# Altium schematic symbol library Hammerhead - Schematic Symbol Lib.SchLib: 16 symbols
Pins are listed as number, name and electrical type; pins without a type are passive.

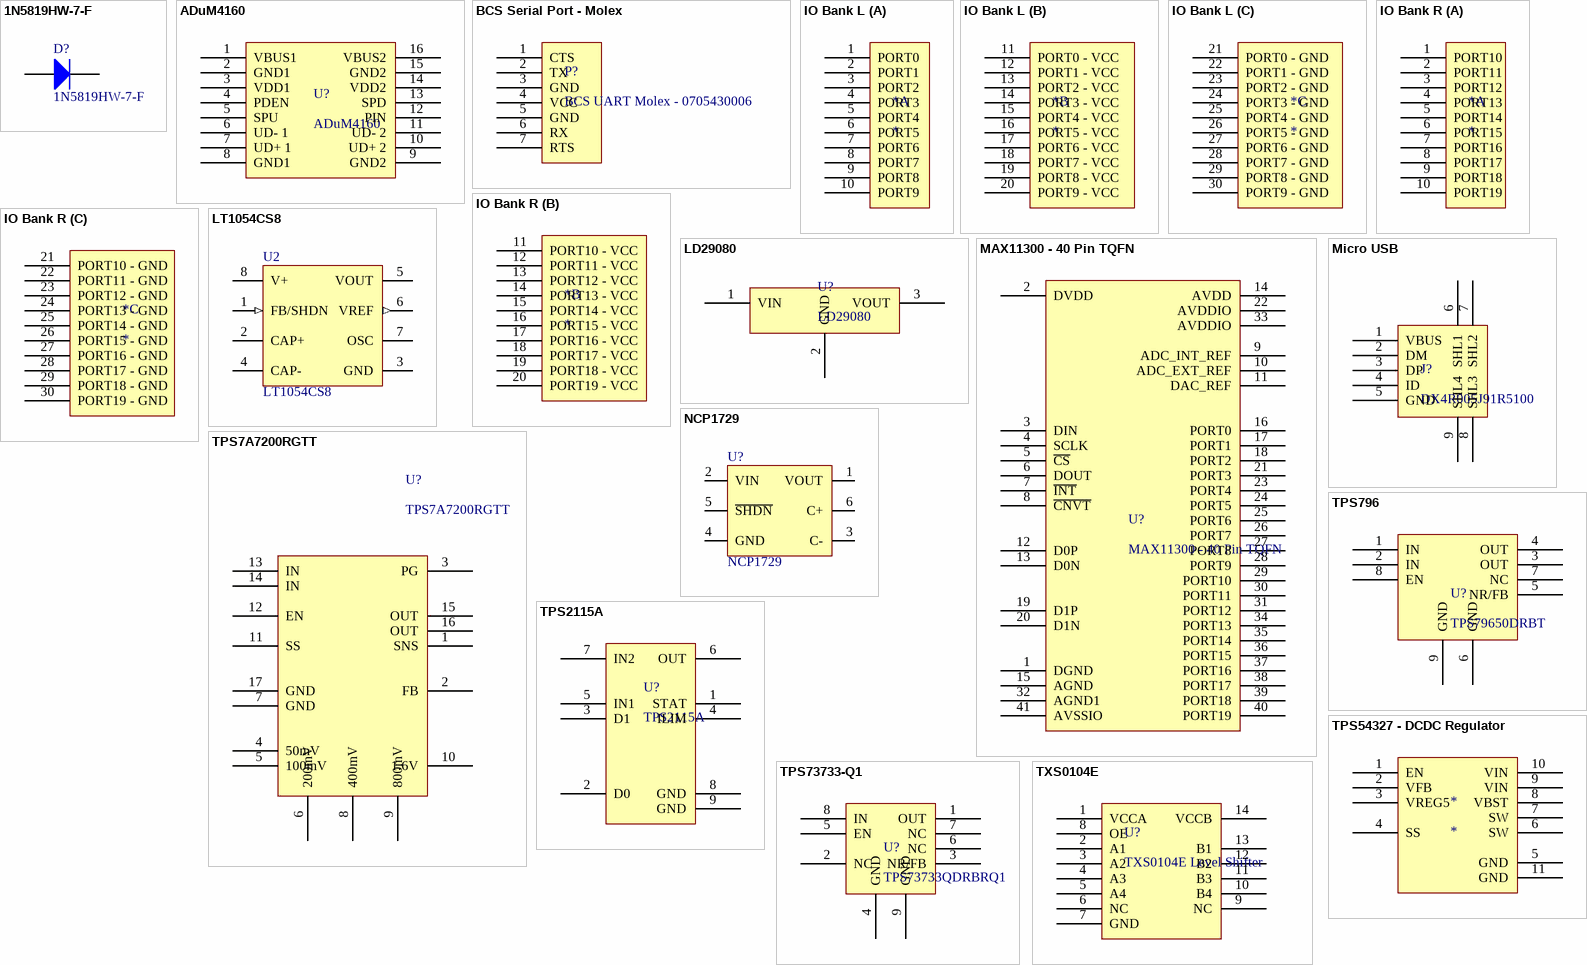
[diagram p0: symbols 1N5819HW-7-F to TXS0104E]

## 1N5819HW-7-F
designator D?
Published: 8-Jun-2000; LatestRevisionDate: 17-Jul-2002; LatestRevisionNote: Re-released for DXP Platform.; PackageVersion: Sep-1996; PackageReference: SMC; Publisher: Altium Limited; PackageDescription: DO-214-AB/SMC; 2 C-Bend Leads; Body 7.9 x 5.9 mm, inc. leads (LxW); Code_JEDEC: DO-214-AB
simulation model DIODE (Diode)
signal-integrity model Diode
footprint DIOM2715X14N (Molded Diode, 2-Leads, Body 2.70x1.55mm, IPC Medium Density)
pins: 1 A, 2 K

## ADuM4160
designator U?
USB Opto Isolator
footprint ADuM4160 (SOIC, 16-Leads, Body 10.30x7.50mm, Pitch 1.27mm, IPC Medium Density)
pins: 1 VBUS1, 2 GND1, 3 VDD1, 4 PDEN, 5 SPU, 6 UD- 1, 7 UD+ 1, 8 GND1, 9 GND2, 10 UD+ 2, 11 UD- 2, 12 PIN, 13 SPD, 14 VDD2, 15 GND2, 16 VBUS2

## BCS Serial Port - Molex
designator P?, comment BCS UART Molex - 0705430006
BCS UART Port Molex
footprint BCS Serial Port - Molex (Molex - 0705530041)
pins: 1 CTS, 2 TX, 3 GND, 4 VCC, 5 GND, 6 RX, 7 RTS

## IO Bank L
designator *
footprint 2.54mm 10X3 Header
part A pins: 1 PORT0, 2 PORT1, 3 PORT2, 4 PORT3, 5 PORT4, 6 PORT5, 7 PORT6, 8 PORT7, 9 PORT8, 10 PORT9
part B pins: 11 PORT0 - VCC, 12 PORT1 - VCC, 13 PORT2 - VCC, 14 PORT3 - VCC, 15 PORT4 - VCC, 16 PORT5 - VCC, 17 PORT6 - VCC, 18 PORT7 - VCC, 19 PORT8 - VCC, 20 PORT9 - VCC
part C pins: 21 PORT0 - GND, 22 PORT1 - GND, 23 PORT2 - GND, 24 PORT3 - GND, 25 PORT4 - GND, 26 PORT5 - GND, 27 PORT6 - GND, 28 PORT7 - GND, 29 PORT8 - GND, 30 PORT9 - GND

## IO Bank R
designator *
footprint 2.54mm 10X3 Header
part A pins: 1 PORT10, 2 PORT11, 3 PORT12, 4 PORT13, 5 PORT14, 6 PORT15, 7 PORT16, 8 PORT17, 9 PORT18, 10 PORT19
part B pins: 11 PORT10 - VCC, 12 PORT11 - VCC, 13 PORT12 - VCC, 14 PORT13 - VCC, 15 PORT14 - VCC, 16 PORT15 - VCC, 17 PORT16 - VCC, 18 PORT17 - VCC, 19 PORT18 - VCC, 20 PORT19 - VCC
part C pins: 21 PORT10 - GND, 22 PORT11 - GND, 23 PORT12 - GND, 24 PORT13 - GND, 25 PORT14 - GND, 26 PORT15 - GND, 27 PORT16 - GND, 28 PORT17 - GND, 29 PORT18 - GND, 30 PORT19 - GND

## LD29080
designator U?
footprint DPAK-3 (Case 369C-01 for MC78xx regulators)
pins: 1 VIN, 2 GND, 3 VOUT

## LT1054CS8
designator U2
Switched-Capacitor Voltage Converter with Regulator, 3.5 to 15 V Vin, Adjustable Vout, 8-pin SOIC (S8-8), 0 to 100 degC; Manufacturer: Linear Technology; Frequency(kHz): 25; Ishutdown(uA): 100; Isupply(mA): 2.5; Vin Max(V): 15; Vin Min(V): 3.5; Voutput: Adj; DatasheetVersion: Rev. G; PackageVersion: Rev. G, 03/2012; PackageReference: S8-8; PackageDescription: 8-Pin Plastic Small Outline (Narrow .150 Inch), Body 4.9 x 3.9 mm, Pitch 1.27 mm; Supplier 1: Digi-Key; Supplier Part Number 1: LT1054CS8-ND; Supplier 2: Newark; Supplier Part Number 2: 57M1187; Max Iout(mA): 100; RoHS: FALSE; Mounting Technology: Surface Mount; PartNumber: LT1054CS8; ComponentLink1Description: Manufacturer URL; ComponentLink1URL: http://www.linear.com/; ComponentLink2Description: Datasheet; ComponentLink2URL: http://cds.linear.com/docs/en/datasheet/1054lfg.pdf; ComponentLink3Description: Package Specification; ComponentLink3URL: http://cds.linear.com/docs/en/packaging/05081610_G_SO8.pdf
footprint LT-S8-8_N (SOIC, 8-Leads, Body 5x4mm, Pitch 1.27mm, IPC Medium Density)
footprint LT-S8-8_L (SOIC, 8-Leads, Body 5x4mm, Pitch 1.27mm, IPC High Density)
footprint LT-S8-8_M (SOIC, 8-Leads, Body 5x4mm, Pitch 1.27mm, IPC Low Density)
pins: 1 FB/SHDN (in), 2 CAP+ "Pin 2, the positive side of the input capacitor (CIN), is alternately driven between V + and ground. When driven to V+, Pin 2 sources current from V+. When driven to ground Pin 2 sinks current to ground. Pin 4, the negative (See Datasheet)", 3 GND (power), 4 CAP- "Pin 2, the positive side of the input capacitor (CIN), is alternately driven between V + and ground. When driven to V+, Pin 2 sources current from V+. When driven to ground Pin 2 sinks current to ground. Pin 4, the negative (See Datasheet)", 5 VOUT (power) "In addition to being the output pin this pin is also tied to the substrate of the device. Special care must be taken in LT1054 circuits to avoid pulling this pin positive with respect to any of the other pins. Pulling Pin 5 (See Datasheet)", 6 VREF (out) "Reference Output. This pin provides a 2.5V reference point for use in LT1054-based regulator circuits. The temperature coefficient of the reference voltage has been adjusted so that the temperature coefficient of the (See Datasheet)", 7 OSC "Oscillator Pin. This pin can be used to raise or lower the oscillator frequency or to synchronize the device to an external clock. Internally Pin 7 is connected to the oscillator timing capacitor (Ct  approx= 150pF) which is (See Datasheet)", 8 V+ (power) "Input Supply. The LT1054 alternately charges CIN to the input voltage when CIN is switched in parallel with the input supply and then transfers charge to COUT when CIN is switched in parallel with COUT. Switching occurs at (See Datasheet)"

## MAX11300 - 40 Pin TQFN
designator U?
MAX11300
footprint Maxim T4066+3 40 pin TQFN (QFN, 40-Leads, Body 6.00x6.00mm, Pitch 0.50mm, Thermal Pad 4.10x4.10mm, IPC Medium Density)
footprint MAXIM C48E+8 48 Pin TQFP (TSQFP, 48-Leads, Body 7.00x7.00mm, Pitch 0.50mm, Thermal Pad 5.30x5.30mm, IPC Medium Density)
pins: 1 DGND, 2 DVDD, 3 DIN, 4 SCLK, 5 ~{CS}, 6 DOUT, 7 ~{INT}, 8 ~{CNVT}, 9 ADC_INT_REF, 10 ADC_EXT_REF, 11 DAC_REF, 12 D0P, 13 D0N, 14 AVDD, 15 AGND, 16 PORT0, 17 PORT1, 18 PORT2, 19 D1P, 20 D1N, 21 PORT3, 22 AVDDIO, 23 PORT4, 24 PORT5, 25 PORT6, 26 PORT7, 27 PORT8, 28 PORT9, 29 PORT10, 30 PORT11, 31 PORT12, 32 AGND1, 33 AVDDIO, 34 PORT13, 35 PORT14, 36 PORT15, 37 PORT16, 38 PORT17, 39 PORT18, 40 PORT19, 41 AVSSIO

## Micro USB
designator J?, comment DX4R005J91R5100
Micro USB Jack B
footprint micro USB
pins: 1 VBUS, 2 DM, 3 DP, 4 ID, 5 GND, 6 SHL1, 7 SHL2, 8 SHL3, 9 SHL4

## NCP1729
designator U?
footprint SOT6
pins: 1 VOUT, 2 VIN, 3 C-, 4 GND, 5 ~{SHDN}, 6 C+

## TPS7A7200RGTT
designator U?
footprint QFN50P300X300X100_HS-17N (QFN, 16-Leads, Body 3.00x3.00mm, Pitch 0.50mm, Thermal Pad 1.70x1.70mm, IPC Medium Density)
pins: 1 SNS, 2 FB, 3 PG, 4 50mV, 5 100mV, 6 200mV, 7 GND, 8 400mV, 9 800mV, 10 1.6V, 11 SS, 12 EN, 13 IN, 14 IN, 15 OUT, 16 OUT, 17 GND

## TPS796
designator U?, comment TPS79650DRBT
footprint QFN65P300X300X100_HS-17N (QFN, 16-Leads, Body 3.00x3.00mm, Pitch 0.65mm, Thermal Pad 2.40x1.65mm, IPC Medium Density)
pins: 1 IN, 2 IN, 3 OUT, 4 OUT, 5 NR/FB, 6 GND, 7 NC, 8 EN, 9 GND

## TPS2115A
designator U?
footprint DRB S-PVSON-N8 (QFN, 16-Leads, Body 3.00x3.00mm, Pitch 0.65mm, Thermal Pad 2.40x1.65mm, IPC Medium Density)
pins: 1 STAT, 2 D0, 3 D1, 4 ILIM, 5 IN1, 6 OUT, 7 IN2, 8 GND, 9 GND

## TPS54327 - DCDC Regulator
designator *
footprint TPS54327 (QFN, 18-Leads, Body 3.00x3.00mm, Pitch 0.50mm, Thermal Pad 2.40x1.65mm, IPC Medium Density)
pins: 1 EN, 2 VFB, 3 VREG5, 4 SS, 5 GND, 6 SW, 7 SW, 8 VBST, 9 VIN, 10 VIN, 11 GND

## TPS73733-Q1
designator U?, comment TPS73733QDRBRQ1
footprint QFN65P300X300X100_HS-17N - smaller pad (QFN, 16-Leads, Body 3.00x3.00mm, Pitch 0.65mm, Thermal Pad 1.75x1.50mm, IPC Medium Density)
pins: 1 OUT, 2 NC, 3 NR/FB, 4 GND, 5 EN, 6 NC, 7 NC, 8 IN, 9 GND

## TXS0104E
designator U?, comment TXS0104E Level Shifter
TXS0104E - Bidriectional Opendrain/pushpull level shift
footprint RGY  (S-PVQFN-N14) (QFN, 16-Leads, Body 3.50x3.50mm, Pitch 0.50mm, Thermal Pad 2.00x2.00mm, IPC Medium Density)
pins: 1 VCCA, 2 A1, 3 A2, 4 A3, 5 A4, 6 NC, 7 GND, 8 OE, 9 NC, 10 B4, 11 B3, 12 B2, 13 B1, 14 VCCB